# Altium schematic symbol library B3B-PH-SM4-TBLFSN.SchLib: 1 symbol
Pins are listed as number, name and electrical type; pins without a type are passive.

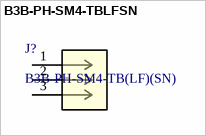
[diagram p0: symbol B3B-PH-SM4-TBLFSN]

## B3B-PH-SM4-TBLFSN
designator J?, comment B3B-PH-SM4-TB(LF)(SN)
Description; Manufacturer_Name: JST; Copyright: Copyright (C) 2025 Ultra Librarian. All rights reserved.; Manufacturer_Part_Number: B3B-PH-SM4-TB(LF)(SN); RefDes: RefDes; Type: Type
footprint CONN_B3B-PH-SM4-TB_03P_JST
pins: 1, 2, 3